# EAGLE library part NOKIA1100_DISP (library walkgeek-eagle)
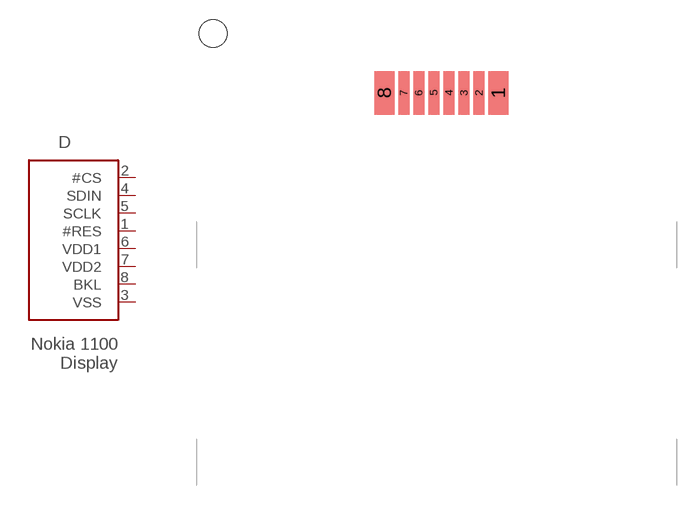
[diagram p1: symbol with the pads of NOKIA1100_DISP; footprint NOKIA1100_DISP]

Designator prefix D

## NOKIA1100_DISP  [NOKIA1100_DISP]
1  #RES  in
2  #CS  in
3  VSS  pwr
4  SDIN  in
5  SCLK  in
6  VDD1  pwr
7  VDD2  pwr
8  BKL  in

## Footprint NOKIA1100_DISP (pad centres in mm)
smd 1.5 x 3.3: 1 4.69,0; 8 -3.97,0
smd 0.84 x 3.3: 2 3.22,0; 3 2.08,0; 4 0.94,0; 5 -0.22,0; 6 -1.36,0; 7 -2.5,0
hole 2.1 at -17,4.5